# Altium footprint library DIOB_ABS4.PcbLib: 1 footprints
Each footprint in its own frame and in the unit in brackets; x right, y up, seen from the top. Pads: shape width x height; smd on the part's side, far side on the other; paste and mask are expansions set on the pad; w line width, h text height; cw(c..) or ccw(c..) is an arc to the next point about the centre after c.
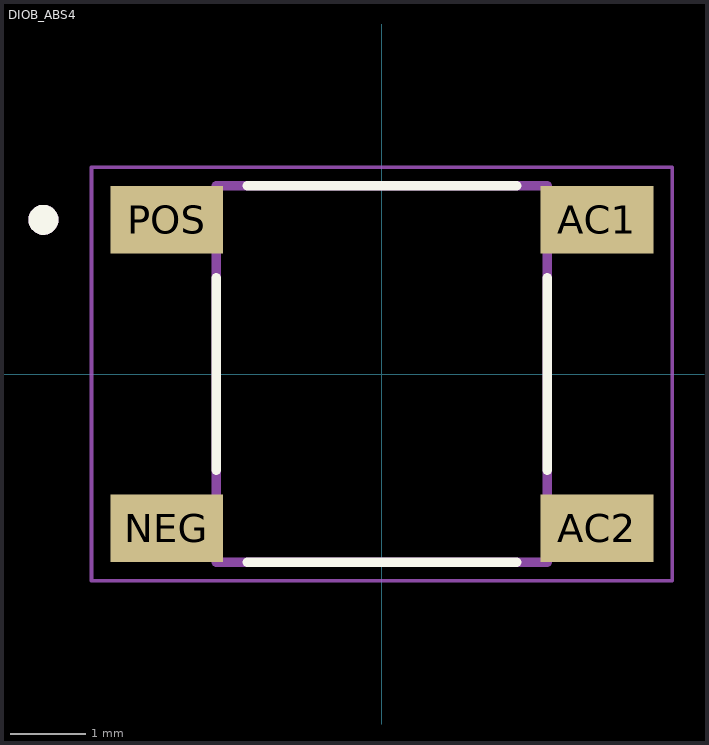
[diagram p0: the footprint, top view; thin cyan lines are the x and y axes]

## DIOB_ABS4 [mm]
pads (4):
  rect 1.5x0.9 smd: AC1(2.86,2.05) AC2(2.86,-2.05) NEG(-2.86,-2.05) POS(-2.86,2.05)
Top Overlay:
  circle w0.2: c-4.5,2.05 r0.1
  lines w0.127: -2.2,-1.28 -2.2,1.28 ; -1.79,-2.5 1.79,-2.5 ; -1.79,2.5 1.79,2.5 ; 2.2,-1.28 2.2,1.28
Mechanical 13:
  circle w0.2: c-4.5,2.05 r0.1
  lines w0.127: -2.2,-2.5 2.2,-2.5 2.2,2.5 -2.2,2.5 -2.2,-2.5
Mechanical 15:
  lines w0.05: -3.86,-2.75 3.86,-2.75 3.86,2.75 -3.86,2.75 -3.86,-2.75